# EAGLE library part EMIF02-USB03F2 (library SM1000)
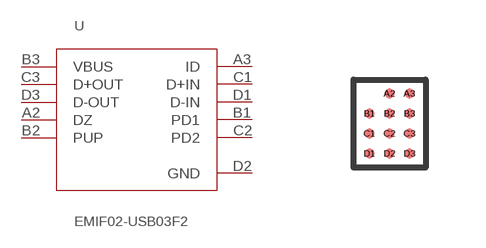
[diagram p0: symbol with the pads of ECOPACK-11; footprint ECOPACK-11]

Designator prefix U

## EMIF02-USB03F2  [ECOPACK-11]
A2  DZ
A3  ID
B1  PD1
B2  PUP
B3  VBUS
C1  D+IN
C2  PD2
C3  D+OUT
D1  D-IN
D2  GND
D3  D-OUT

## Footprint ECOPACK-11 (pad centres in mm)
smd 0.25 x 0.25: A2 0,0.75; A3 0.5,0.75; B1 -0.5,0.25; B2 0,0.25; B3 0.5,0.25; C1 -0.5,-0.25; C2 0,-0.25; C3 0.5,-0.25; D1 -0.5,-0.75; D2 0,-0.75; D3 0.5,-0.75